# Altium schematic symbol library DO - TVS - Diodes.SchLib: 9 symbols
Pins are listed as number, name and electrical type; pins without a type are passive.

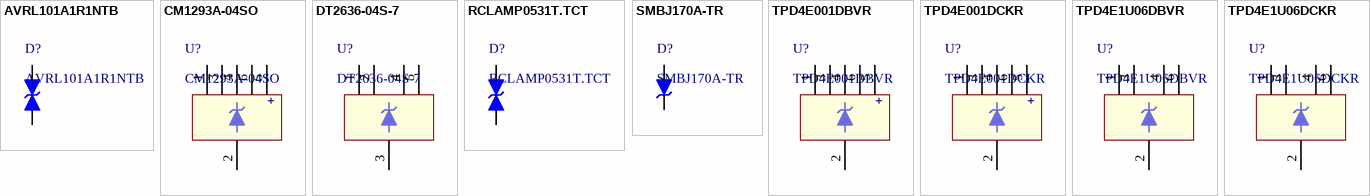
[diagram p0: symbols AVRL101A1R1NTB to TPD4E1U06DCKR]

## AVRL101A1R1NTB
designator D?
VARISTOR 39V 0402; Manufacturer: TDK Corporation; Type: Zener; Voltage - Reverse Standoff (Typ): 5V (Max); Voltage - Breakdown (Min): 6V; Voltage - Clamping (Max) @ Ipp: 20V; Current - Peak Pulse (10/1000µs): 4A (8/20µs); Power - Peak Pulse: 80W; Power Line Protection: No; Capacitance @ Frequency: 1.1pF @ 1MHz; Supplier 1: Digi-Key; Supplier Part Number 1: 445-2561-1-ND; Manufacturer Part Number: AVRL101A1R1NTB; RoHS: RoHS Compliant; Category: Circuit Protection; Stock 1: 27666; Pricing 1: 1=0.97, 10=0.845, 25=0.7488, 100=0.6521, 250=0.56752, 500=0.483, 1000=0.3864 (USD); Packaging: Cut Tape (CT); Part Status: Active; Applications: General Purpose; Operating Temperature: -55°C ~ 125°C (TJ); Mounting Type: Surface Mount; ComponentLink1URL: https://product.tdk.com/info/en/catalog/datasheets/vpd_varistors_avr_en.pdf; ComponentLink1Description: https://product.tdk.com/info/en/catalog/datasheets/vpd_varistors_avr_en.pdf; Package: 0402 (1106 Metric)
footprint D 0402 (1106)
footprint V 0402 (1005)
pins: 1 D1, 2 D2

## CM1293A-04SO
designator U?
TVS DIODE 3.3VWM 9.9VC SC74; Manufacturer: ON Semiconductor; Voltage - Reverse Standoff (Typ): 3.3V; Voltage - Clamping (Max) @ Ipp: 9.9V (Typ); Current - Peak Pulse (10/1000µs): 1A (8/20µs); Power Line Protection: Yes; Supplier 1: Digi-Key; Supplier Part Number 1: CM1293A-04SOOSCT-ND; Manufacturer Part Number: CM1293A-04SO; RoHS: RoHS Compliant; Category: Circuit Protection; Stock 1: 32324; Pricing 1: 1=0.43, 10=0.323, 100=0.1829, 500=0.12114, 1000=0.09287 (USD); Packaging: Cut Tape (CT); Part Status: Active; Type: Steering (Rail to Rail); Voltage - Breakdown (Min): -; Power - Peak Pulse: -; Applications: Automotive; Capacitance @ Frequency: -; Operating Temperature: -40°C ~ 85°C (TA); Mounting Type: Surface Mount; Supplier Device Package: SC-74; ComponentLink1URL: http://www.onsemi.com/pub_link/Collateral/CM1293A-04SO-D.PDF; ComponentLink1Description: http://www.onsemi.com/pub_link/Collateral/CM1293A-04SO-D.PDF; Package: SC-74, SOT-457
footprint SC-74 (SOT-457)
pins: 1 CH1 "ESD Channel", 2 VN "Negative Voltage Supply Rail", 3 CH2 "ESD Channel", 4 CH3 "ESD Channel", 5 VP "Positive Voltage Supply Rail", 6 CH4 "ESD Channel"
text: +

## DT2636-04S-7
designator U?
TVS DIODE 5.5VWM 9VC; Manufacturer: Diodes Incorporated; Voltage - Reverse Standoff (Typ): 5.5V (Max); Voltage - Breakdown (Min): 7V; Voltage - Clamping (Max) @ Ipp: 9V (Typ); Current - Peak Pulse (10/1000µs): 5A (8/20µs); Power - Peak Pulse: 60W; Power Line Protection: Yes; Capacitance @ Frequency: 0.75pF @ 1MHz; Supplier 1: Digi-Key; Supplier Part Number 1: DT2636-04S-7DICT-ND; Manufacturer Part Number: DT2636-04S-7; RoHS: RoHS Compliant; Category: Circuit Protection; Stock 1: 3001; Pricing 1: 1=0.39, 10=0.291, 100=0.1812, 500=0.12396, 1000=0.09536 (USD); Packaging: Cut Tape (CT); Part Status: Active; Type: Steering (Rail to Rail); Applications: HDMI; Operating Temperature: -55°C ~ 85°C (TA); Mounting Type: Surface Mount; Supplier Device Package: SOT-363; ComponentLink1URL: http://www.diodes.com/assets/Datasheets/DT2636-04S.pdf; ComponentLink1Description: http://www.diodes.com/assets/Datasheets/DT2636-04S.pdf; Package: 6-TSSOP, SC-88, SOT-363
footprint SOT-363-6 (SOT363 (SC-88, SC-70-6), 6-Leads, Body 2.2x2.2mm (max), Pitch 0.65mm, IPC Medium Density)
pins: 1 CH1 "ESD Channel", 2 CH2 "ESD Channel", 3 GND "Negative Voltage Supply Rail", 4 CH3 "ESD Channel", 5 CH4 "ESD Channel", 6 NC hidden

## RCLAMP0531T.TCT
designator D?
TVS DIODE 5VWM 20VC; Manufacturer: Semtech Corporation; Type: Zener; Voltage - Reverse Standoff (Typ): 5V (Max); Voltage - Breakdown (Min): 6V; Voltage - Clamping (Max) @ Ipp: 20V; Current - Peak Pulse (10/1000µs): 4A (8/20µs); Power - Peak Pulse: 80W; Power Line Protection: No; Capacitance @ Frequency: 0.5pF @ 1MHz; Supplier 1: Digi-Key; Supplier Part Number 1: RCLAMP0531TTCTCT-ND; Manufacturer Part Number: RCLAMP0531T.TCT; RoHS: RoHS Compliant; Category: Circuit Protection; Stock 1: 27666; Pricing 1: 1=0.97, 10=0.845, 25=0.7488, 100=0.6521, 250=0.56752, 500=0.483, 1000=0.3864 (USD); Packaging: Cut Tape (CT); Part Status: Active; Applications: General Purpose; Operating Temperature: -55°C ~ 125°C (TJ); Mounting Type: Surface Mount; Supplier Device Package: SLP1006P2T; ComponentLink1URL: http://www.semtech.com/images/datasheet/rclamp0531t.pdf; ComponentLink1Description: http://www.semtech.com/images/datasheet/rclamp0531t.pdf; Package: 0402 (1106 Metric)
footprint D 0402 (1106)
pins: 1 D1, 2 D2

## SMBJ170A-TR
designator D?
TVS DIODE 170VWM 353VC SMB; Manufacturer: STMicroelectronics; Type: Zener; Unidirectional Channels: 1; Voltage - Reverse Standoff (Typ): 170V; Voltage - Breakdown (Min): 189V; Voltage - Clamping (Max) @ Ipp: 353V; Current - Peak Pulse (10/1000µs): 11.3A (8/20µs); Power - Peak Pulse: 600W; Power Line Protection: No; Breakdown Voltage: 189 V; Clamping Voltage: 353 V; Peak Surge Current: 2.2 A; Pd - Power Dissipation: 600 W; Polarity: Unidirectional; Working Voltage: 170 V; Supplier 1: Digi-Key; Manufacturer Part Number: SMBJ170A-TR; RoHS: RoHS Compliant; Category: Circuit Protection; Stock 1: 20363; Pricing 1: 1=0.36, 10=0.29, 100=0.198, 500=0.1482, 1000=0.111 (USD); Packaging: Cut Tape (CT); Part Status: Active; Bidirectional Channels: -; Applications: General Purpose; Capacitance @ Frequency: -; Operating Temperature: -55°C ~ 150°C (TJ); Mounting Type: Surface Mount; Package / Case: DO-214AA, SMB; Supplier Device Package: SMB (DO-214AA); ComponentLink1URL: http://www.st.com/content/ccc/resource/technical/document/datasheet/19/78/91/39/07/cd/40/65/CD00001366.pdf/files/CD00001366.pdf/_jcr_content/translations/en.CD00001366.pdf; ComponentLink1Description: http://www.st.com/content/ccc/resource/technical/document/datasheet/19/78/91/39/07/cd/40/65/CD00001366.pdf/files/CD00001366.pdf/_jcr_content/translations/en.CD00001366.pdf; Supplier 2: Mouser; Stock 2: 5435; Pricing 2: 1=0.340, 10=0.266, 100=0.144, 1000=0.108, 2500=0.093, 10000=0.087, 25000=0.080, 50000=0.077, 100000=0.074 (USD); Height: 2.45 mm; Length: 4.6 mm; Operating Temperature Range: - 65 C to + 175 C; Series: SMBJ170; Termination Style: SMD/SMT; Width: 3.95 mm; Brand: STMicroelectronics; Mounting Style: SMD/SMT; Maximum Operating Temperature: + 150 C; Minimum Operating Temperature: - 55 C; Standard Pack Qty: 10000; Tradename: Transil; RoHS - Mouser: Y; Minimum Order Quantity: 1; Reeling: True; ComponentLink2URL: http://www.mouser.com/ds/2/389/smbj-955195.pdf; ComponentLink2Description: http://www.mouser.com/ds/2/389/smbj-955195.pdf; Supplier Part Number 1: 497-6511-1-ND; Supplier Part Number 2: 511-SMBJ170A-TR
footprint DO-214AA (SMB)
pins: 1 A, 2 K

## TPD4E001DBVR
designator U?
TVS DIODE 5.5VWM SOT23-6; Manufacturer: Texas Instruments; Voltage - Reverse Standoff (Typ): 5.5V (Max); Voltage - Breakdown (Min): 11V; Power - Peak Pulse: 100W; Power Line Protection: Yes; Supplier 1: Digi-Key; Supplier Part Number 1: 296-28203-1-ND; Manufacturer Part Number: TPD4E001DBVR; RoHS: RoHS Compliant; Category: Circuit Protection; Stock 1: 6722; Pricing 1: 1=0.66, 10=0.578, 100=0.443, 500=0.3502, 1000=0.28016 (USD); Packaging: Cut Tape (CT); Part Status: Active; Type: Steering (Rail to Rail); Voltage - Clamping (Max) @ Ipp: -; Current - Peak Pulse (10/1000µs): -; Applications: Ethernet; Capacitance @ Frequency: -; Operating Temperature: -40°C ~ 85°C (TA); Mounting Type: Surface Mount; Supplier Device Package: SOT-23-6; ComponentLink1URL: http://www.ti.com/lit/ds/symlink/tpd4e001.pdf; ComponentLink1Description: http://www.ti.com/lit/ds/symlink/tpd4e001.pdf; Package: SOT-23-6
footprint SOT-23-6 (SOT23, 6-Leads, Body 3.0x3.0mm (max), Pitch 0.95mm, IPC Medium Density)
pins: 1 CH1 "ESD Channel", 2 GND "Ground", 3 CH2 "ESD Channel", 4 CH3 "ESD Channel", 5 VCC "Power-supply input. Bypass VCC to GND with a 0.1-μF ceramic capacitor.", 6 CH4 "ESD Channel"
text: +

## TPD4E001DCKR
designator U?
TVS DIODE 5.5VWM SC70-6; Manufacturer: Texas Instruments; Voltage - Reverse Standoff (Typ): 5.5V (Max); Voltage - Breakdown (Min): 11V; Power - Peak Pulse: 100W; Power Line Protection: Yes; Supplier 1: Digi-Key; Supplier Part Number 1: 296-28779-1-ND; Manufacturer Part Number: TPD4E001DCKR; RoHS: RoHS Compliant; Category: Circuit Protection; Stock 1: 6132; Pricing 1: 1=0.66, 10=0.578, 100=0.443, 500=0.3502, 1000=0.28016 (USD); Packaging: Cut Tape (CT); Part Status: Active; Type: Steering (Rail to Rail); Voltage - Clamping (Max) @ Ipp: -; Current - Peak Pulse (10/1000µs): -; Applications: Ethernet; Capacitance @ Frequency: -; Operating Temperature: -40°C ~ 85°C (TA); Mounting Type: Surface Mount; Supplier Device Package: SC-70-6; ComponentLink1URL: http://www.ti.com/lit/ds/symlink/tpd4e001.pdf; ComponentLink1Description: http://www.ti.com/lit/ds/symlink/tpd4e001.pdf; Package: 6-TSSOP, SC-88, SOT-363
footprint SC-70-6
pins: 1 CH1 "ESD Channel", 2 GND "Ground", 3 CH2 "ESD Channel", 4 CH3 "ESD Channel", 5 VCC "Power-supply input. Bypass VCC to GND with a 0.1-μF ceramic capacitor.", 6 CH4 "ESD Channel"
text: +

## TPD4E1U06DBVR
designator U?
TVS DIODE 5.5VWM 15VC SOT23-6; Manufacturer: Texas Instruments; Voltage - Reverse Standoff (Typ): 5.5V (Max); Voltage - Breakdown (Min): 6.5V; Voltage - Clamping (Max) @ Ipp: 15V (Typ); Current - Peak Pulse (10/1000µs): 3A (8/20µs); Power - Peak Pulse: 45W; Power Line Protection: Yes; Supplier 1: Digi-Key; Supplier Part Number 1: 296-35965-1-ND; Manufacturer Part Number: TPD4E1U06DBVR; RoHS: RoHS Compliant; Category: Circuit Protection; Stock 1: 10970; Pricing 1: 1=0.41, 10=0.329, 100=0.2241, 500=0.1681, 1000=0.12607 (USD); Packaging: Cut Tape (CT); Part Status: Active; Type: Steering (Rail to Rail); Applications: Ethernet, HDMI; Capacitance @ Frequency: -; Operating Temperature: -40°C ~ 125°C (TA); Mounting Type: Surface Mount; Supplier Device Package: SOT-23-6; ComponentLink1URL: http://www.ti.com/lit/ds/symlink/tpd4e1u06.pdf; ComponentLink1Description: http://www.ti.com/lit/ds/symlink/tpd4e1u06.pdf; Package: SOT-23-6
footprint SOT-23-6 (SOT23, 6-Leads, Body 3.0x3.0mm (max), Pitch 0.95mm, IPC Medium Density)
pins: 1 CH1 "ESD Channel", 2 GND "Ground", 3 CH2 "ESD Channel", 4 CH3 "ESD Channel", 5 NC hidden, 6 CH4 "ESD Channel"

## TPD4E1U06DCKR
designator U?
TVS DIODE 5.5VWM 15VC SC70-6; Manufacturer: Texas Instruments; Voltage - Reverse Standoff (Typ): 5.5V (Max); Voltage - Breakdown (Min): 6.5V; Voltage - Clamping (Max) @ Ipp: 15V (Typ); Current - Peak Pulse (10/1000µs): 3A (8/20µs); Power - Peak Pulse: 45W; Power Line Protection: Yes; Supplier 1: Digi-Key; Supplier Part Number 1: 296-39347-1-ND; Manufacturer Part Number: TPD4E1U06DCKR; RoHS: RoHS Compliant; Category: Circuit Protection; Stock 1: 21848; Pricing 1: 1=0.41, 10=0.329, 100=0.2241, 500=0.1681, 1000=0.12607 (USD); Packaging: Cut Tape (CT); Part Status: Active; Type: Steering (Rail to Rail); Applications: Ethernet, HDMI; Capacitance @ Frequency: -; Operating Temperature: -40°C ~ 125°C (TA); Mounting Type: Surface Mount; Supplier Device Package: SC-70-6; ComponentLink1URL: http://www.ti.com/lit/ds/symlink/tpd4e1u06.pdf; ComponentLink1Description: http://www.ti.com/lit/ds/symlink/tpd4e1u06.pdf; Package: 6-TSSOP, SC-88, SOT-363
footprint SC-70-6 (SOT-363-6)
pins: 1 CH1 "ESD Channel", 2 GND "Ground", 3 CH2 "ESD Channel", 4 CH3 "ESD Channel", 5 NC hidden, 6 CH4 "ESD Channel"